# Altium schematic symbol library Biblioteca esquematica.SchLib: 32 symbols
Pins are listed as number, name and electrical type; pins without a type are passive.

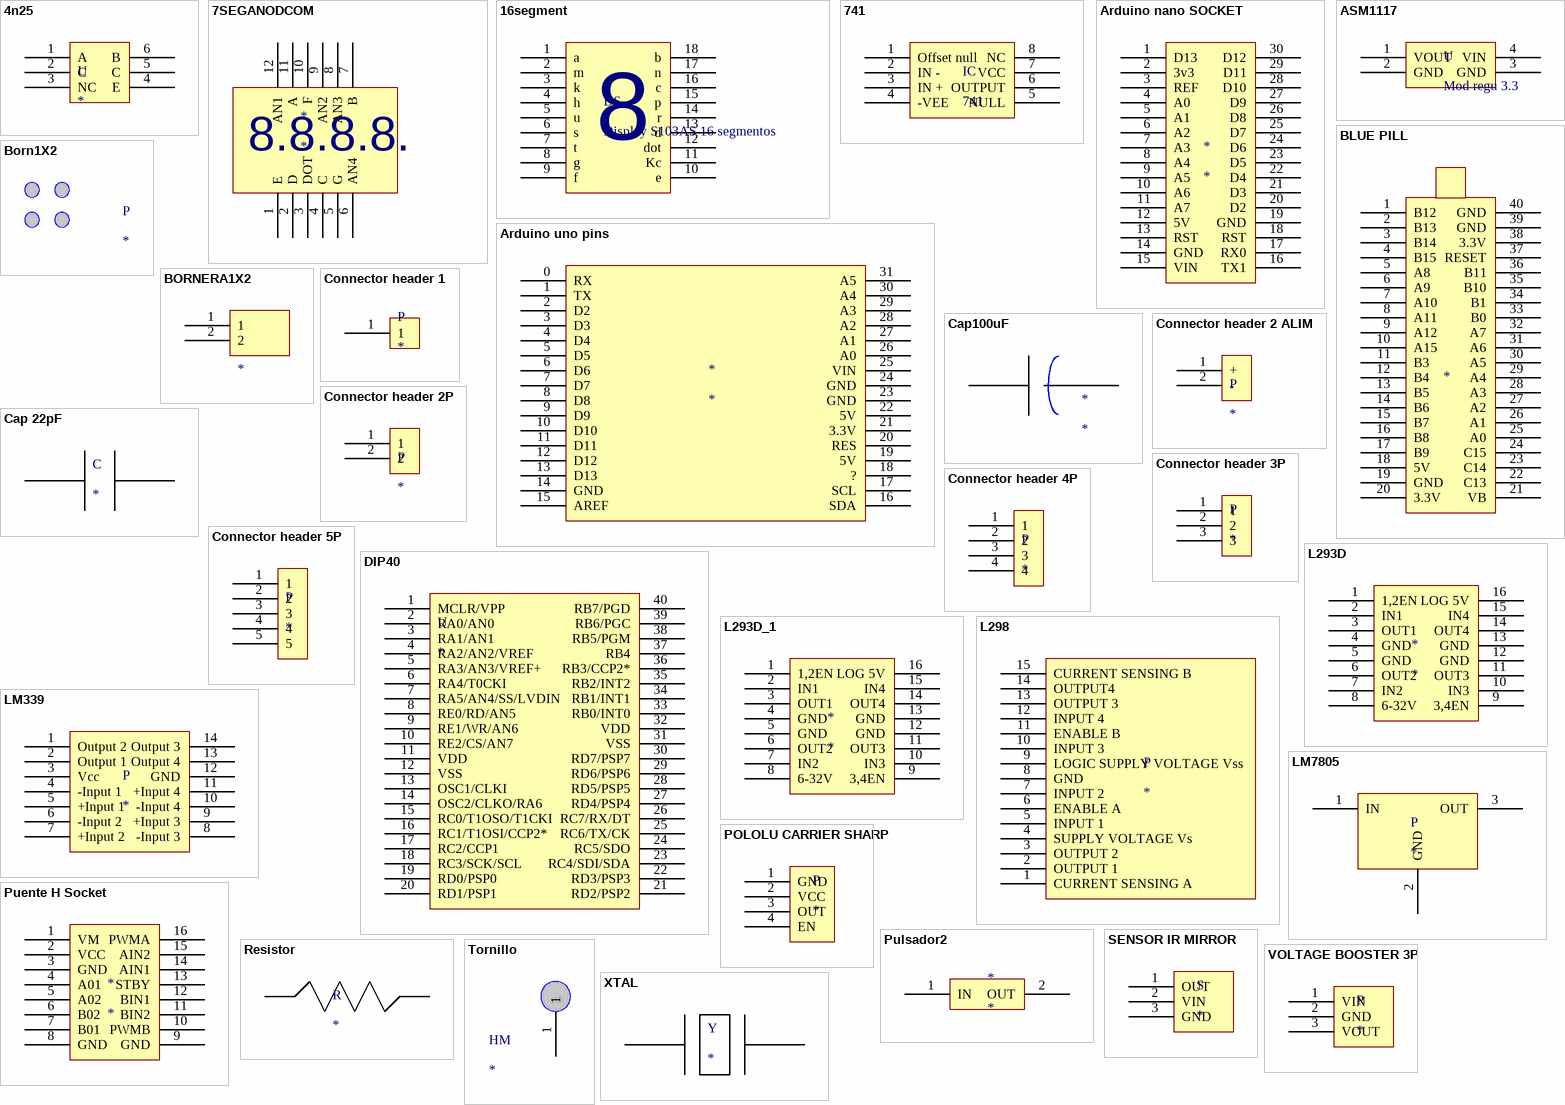
[diagram p0: symbols 4n25 to XTAL]

## 4n25
designator U
Optoacoplador con fototransistor de salida y conexión a base. Voltaje de aislamiento de prueba 5300 VRMS, capacitancia entrada -salida < 0.5 pF. Empaque 6-DIP.
pins: 1 A, 2 C, 3 NC, 4 E, 5 C, 6 B

## 7SEGANODCOM
designator *
5461bs
pins: 1 E, 2 D, 3 DOT, 4 C, 5 G, 6 AN4, 7 B, 8 AN3, 9 AN2, 10 F, 11 A, 12 AN1
text: 8.8.8.8.

## 16segment
designator DS, comment Display S103AS 16 segmentos
footprint DISPLAY16SEG
pins: 1 a, 2 m, 3 k, 4 h, 5 u, 6 s, 7 t, 8 g, 9 f, 10 e, 11 Kc, 12 dot, 13 d, 14 r, 15 p, 16 c, 17 n, 18 b

## 741
designator IC
OPAMP 741
footprint DIP8 - duplicate
pins: 1 Offset null, 2 IN -, 3 IN +, 4 -VEE, 5 NULL, 6 OUTPUT, 7 VCC, 8 NC

## Arduino nano SOCKET
designator *
footprint ARDUNANOSOCKET
pins: 1 D13, 2 3v3, 3 REF, 4 A0, 5 A1, 6 A2, 7 A3, 8 A4, 9 A5, 10 A6, 11 A7, 12 5V, 13 RST, 14 GND, 15 VIN, 16 TX1, 17 RX0, 18 RST, 19 GND, 20 D2, 21 D3, 22 D4, 23 D5, 24 D6, 25 D7, 26 D8, 27 D9, 28 D10, 29 D11, 30 D12

## Arduino uno pins
designator *
pins: 0 RX, 1 TX, 2 D2, 3 D3, 4 D4, 5 D5, 6 D6, 7 D7, 8 D8, 9 D9, 10 D10, 11 D11, 12 D12, 13 D13, 14 GND, 15 AREF, 16 SDA, 17 SCL, 18 ?, 19 5V, 20 RES, 21 3.3V, 22 5V, 23 GND, 24 GND, 25 VIN, 26 A0, 27 A1, 28 A2, 29 A3, 30 A4, 31 A5

## ASM1117
designator U, comment Mod regu 3.3
Optoacoplador con fototransistor de salida y conexión a base. Voltaje de aislamiento de prueba 5300 VRMS, capacitancia entrada -salida < 0.5 pF. Empaque 6-DIP.
pins: 1 VOUT, 2 GND, 3 GND, 4 VIN

## BLUE PILL
designator ?
DIP20 STM32F103C8T6
footprint BORN1X2
footprint DIP40
pins: 1 B12, 2 B13, 3 B14, 4 B15, 5 A8, 6 A9, 7 A10, 8 A11, 9 A12, 10 A15, 11 B3, 12 B4, 13 B5, 14 B6, 15 B7, 16 B8, 17 B9, 18 5V, 19 GND, 20 3.3V, 21 VB, 22 C13, 23 C14, 24 C15, 25 A0, 26 A1, 27 A2, 28 A3, 29 A4, 30 A5, 31 A6, 32 A7, 33 B0, 34 B1, 35 B10, 36 B11, 37 RESET, 38 3.3V, 39 GND, 40 GND

## Born1X2
designator P
ED1621 BORNERA

## BORNERA1X2
designator ?
Optoacoplador con fototransistor de salida y conexión a base. Voltaje de aislamiento de prueba 5300 VRMS, capacitancia entrada -salida < 0.5 pF. Empaque 6-DIP.
footprint BORN1X2
pins: 1, 2

## Cap100uF
designator *

## Cap 22pF
designator C
Capacitor 22pF SMT

## Connector header 1
designator P
Header, 2-Pin
footprint HEADER 1X1
pins: 1

## Connector header 2 ALIM
designator P
Header, 2-Pin
pins: 1 +, 2 -

## Connector header 2P
designator P
Header, 2-Pin
pins: 1, 2

## Connector header 3P
designator P
Header, 3-Pin
pins: 1, 2, 3

## Connector header 4P
designator P
Header, 4-Pin
pins: 1, 2, 3, 4

## Connector header 5P
designator P
Header, 5-Pin
pins: 1, 2, 3, 4, 5

## DIP40
designator U
IC PIC 18F452  40 pins THT
pins: 1 MCLR/VPP, 2 RA0/AN0, 3 RA1/AN1, 4 RA2/AN2/VREF, 5 RA3/AN3/VREF+ , 6 RA4/T0CKI, 7 RA5/AN4/SS/LVDIN, 8 RE0/RD/AN5, 9 RE1/WR/AN6, 10 RE2/CS/AN7, 11 VDD, 12 VSS, 13 OSC1/CLKI, 14 OSC2/CLKO/RA6, 15 RC0/T1OSO/T1CKI, 16 RC1/T1OSI/CCP2*, 17 RC2/CCP1, 18 RC3/SCK/SCL, 19 RD0/PSP0, 20 RD1/PSP1, 21 RD2/PSP2, 22 RD3/PSP3, 23 RC4/SDI/SDA, 24 RC5/SDO, 25 RC6/TX/CK, 26 RC7/RX/DT, 27 RD4/PSP4, 28 RD5/PSP5, 29 RD6/PSP6, 30 RD7/PSP7, 31 VSS, 32 VDD, 33 RB0/INT0, 34 RB1/INT1, 35 RB2/INT2, 36 RB3/CCP2*, 37 RB4, 38 RB5/PGM, 39 RB6/PGC, 40 RB7/PGD

## L293D
designator *
TB6612FNG
footprint ARDUNANOSOCKET
footprint PUENTE H SOCKET (TB66112FNG)
pins: 1 1,2EN, 2 IN1, 3 OUT1, 4 GND, 5 GND, 6 OUT2, 7 IN2, 8 6-32V, 9 3,4EN, 10 IN3, 11 OUT3, 12 GND, 13 GND, 14 OUT4, 15 IN4, 16 LOG 5V

## L293D_1
designator *
TB6612FNG
footprint ARDUNANOSOCKET
footprint PUENTE H SOCKET (TB66112FNG)
pins: 1 1,2EN, 2 IN1, 3 OUT1, 4 GND, 5 GND, 6 OUT2, 7 IN2, 8 6-32V, 9 3,4EN, 10 IN3, 11 OUT3, 12 GND, 13 GND, 14 OUT4, 15 IN4, 16 LOG 5V

## L298
designator P
Manejador de Potencia dual en puente H
pins: 1 CURRENT SENSING A, 2 OUTPUT 1, 3 OUTPUT 2, 4 SUPPLY VOLTAGE Vs, 5 INPUT 1, 6 ENABLE A, 7 INPUT 2, 8 GND, 9 LOGIC SUPPLY VOLTAGE Vss, 10 INPUT 3, 11 ENABLE B, 12 INPUT 4, 13 OUTPUT 3, 14 OUTPUT4, 15 CURRENT SENSING B

## LM339
designator P
D43 IC QUAD COMPARATOR SOIC 14 SMT
pins: 1 Output 2, 2 Output 1, 3 Vcc, 4 -Input 1, 5 +Input 1, 6 -Input 2, 7 +Input 2, 8 -Input 3, 9 +Input 3, 10 -Input 4, 11 +Input 4, 12 GND, 13 Output 4, 14 Output 3

## LM7805
designator P
D39 IC REGULATOR 5VOLT LM7805 THT
footprint TO-220A (Regulador de voltaje positivo, de 5 voltios y 1A de salida. Empaque TO-220.)
pins: 1 IN, 2 GND, 3 OUT

## POLOLU CARRIER SHARP
designator P
POLOLU CARRIER SHARP
footprint POLOLU CARRIER SHARP (POLOLU OJ1213)
pins: 1 GND, 2 VCC, 3 OUT, 4 EN

## Puente H Socket
designator *
TB6612FNG
footprint ARDUNANOSOCKET
footprint PUENTE H SOCKET (TB66112FNG)
pins: 1 VM, 2 VCC, 3 GND, 4 A01, 5 A02, 6 B02, 7 B01, 8 GND, 9 GND, 10 PWMB, 11 BIN2, 12 BIN1, 13 STBY, 14 AIN1, 15 AIN2, 16 PWMA

## Pulsador2
designator *
pins: 1 IN, 2 OUT

## Resistor
designator R
RES 1206 1/8W

## SENSOR IR MIRROR
designator S
POLOLU IRS01A
footprint BOOSTER OJ1213 (POLOLU OJ1213)
pins: 1 OUT, 2 VIN, 3 GND

## Tornillo
designator HM
footprint Tornillo
pins: 1

## VOLTAGE BOOSTER 3P
designator P
VOLTAGE BOOSTER 3P
footprint BOOSTER OJ1213 (POLOLU OJ1213)
pins: 1 VIN, 2 GND, 3 VOUT

## XTAL
designator Y
Crystal Oscillator XTAL 32.00 MHZ THT